# Altium footprint library CapSense.PcbLib: 4 footprints
Each footprint in its own frame and in the unit in brackets; x right, y up, seen from the top. Pads: shape width x height; smd on the part's side, far side on the other; paste and mask are expansions set on the pad; w line width, h text height; cw(c..) or ccw(c..) is an arc to the next point about the centre after c.
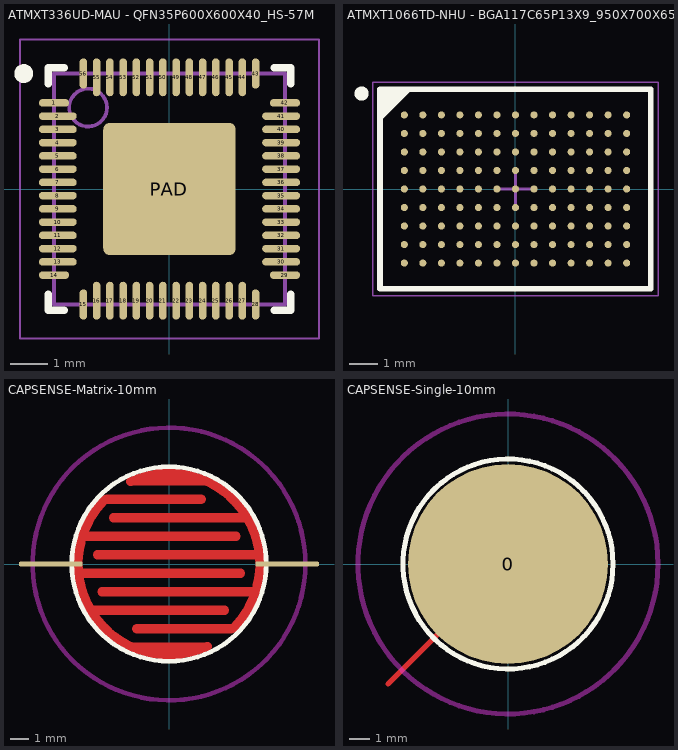
[diagram p0: the footprints below, top view; thin cyan lines are the x and y axes]

## ATMXT336UD-MAU - QFN35P600X600X40_HS-57M [mm] "QFN, 56-Leads, Body 6.00x6.00mm, Pitch 0.35mm, Thermal Pad 4.50x4.50mm, IPC Low Density"
height 0.4
pads (57):
  oval 0.8x0.2 smd paste-99 mask+0.05: 1(-3.05,2.275) 14(-3.05,-2.275) 29(3.05,-2.275) 42(3.05,2.275)
  oval 1x0.2 smd paste-99 mask+0.05: 2(-2.95,1.925) 3(-2.95,1.575) 4(-2.95,1.225) 5(-2.95,0.875) 6(-2.95,0.525) 7(-2.95,0.175) 8(-2.95,-0.175) 9(-2.95,-0.525) 10(-2.95,-0.875) 11(-2.95,-1.225) 12(-2.95,-1.575) 13(-2.95,-1.925) 30(2.95,-1.925) 31(2.95,-1.575) 32(2.95,-1.225) 33(2.95,-0.875) 34(2.95,-0.525) 35(2.95,-0.175) 36(2.95,0.175) 37(2.95,0.525) 38(2.95,0.875) 39(2.95,1.225) 40(2.95,1.575) 41(2.95,1.925)
  oval 0.2x0.8 smd paste-99 mask+0.05: 15(-2.275,-3.05) 28(2.275,-3.05) 43(2.275,3.05) 56(-2.275,3.05)
  oval 0.2x1 smd paste-99 mask+0.05: 16(-1.925,-2.95) 17(-1.575,-2.95) 18(-1.225,-2.95) 19(-0.875,-2.95) 20(-0.525,-2.95) 21(-0.175,-2.95) 22(0.175,-2.95) 23(0.525,-2.95) 24(0.875,-2.95) 25(1.225,-2.95) 26(1.575,-2.95) 27(1.925,-2.95) 44(1.925,2.95) 45(1.575,2.95) 46(1.225,2.95) 47(0.875,2.95) 48(0.525,2.95) 49(0.175,2.95) 50(-0.175,2.95) 51(-0.525,2.95) 52(-0.875,2.95) 53(-1.225,2.95) 54(-1.575,2.95) 55(-1.925,2.95)
  rrect10% 3.5x3.5 smd paste-99 mask+0.08: PAD(0,0)
Top Overlay:
  circle w0.25: c-3.85,3.05 r0.125
  lines w0.2: -3.2,-2.775 -3.2,-3.2 -2.775,-3.2 ; -3.2,2.775 -3.2,3.2 -2.775,3.2 ; 2.775,-3.2 3.2,-3.2 3.2,-2.775 ; 2.775,3.2 3.2,3.2 3.2,2.775
Top Paste:
  circle w0.5: c0,0 r0.127
  circle w0.5: c0,-1.143 r0.127
  circle w0.5: c-1.143,0 r0.127
  circle w0.5: c1.143,0 r0.127
  circle w0.5: c0,1.143 r0.127
  circle w0.5: c1.143,1.143 r0.127
  circle w0.5: c1.143,-1.143 r0.127
  circle w0.5: c-1.143,-1.143 r0.127
  circle w0.5: c-1.143,1.143 r0.127
  lines w0.2: -3.25,-2.275 -2.85,-2.275 ; -3.25,-1.925 -2.75,-1.925 ; -3.25,-1.575 -2.75,-1.575 ; -3.25,-1.225 -2.75,-1.225 ; -3.25,-0.875 -2.75,-0.875 ; -3.25,-0.525 -2.75,-0.525 ; -3.25,-0.175 -2.75,-0.175 ; -3.25,0.175 -2.75,0.175 ; -3.25,0.525 -2.75,0.525 ; -3.25,0.875 -2.75,0.875 ; -3.25,1.225 -2.75,1.225 ; -3.25,1.575 -2.75,1.575 ; -3.25,1.925 -2.75,1.925 ; -3.25,2.275 -2.85,2.275 ; -2.275,-3.25 -2.275,-2.85 ; -2.275,2.85 -2.275,3.25 ; -1.925,-3.25 -1.925,-2.75 ; -1.925,2.75 -1.925,3.25 ; -1.575,-3.25 -1.575,-2.75 ; -1.575,2.75 -1.575,3.25 ; -1.225,-3.25 -1.225,-2.75 ; -1.225,2.75 -1.225,3.25 ; -0.875,-3.25 -0.875,-2.75 ; -0.875,2.75 -0.875,3.25 ; -0.525,-3.25 -0.525,-2.75 ; -0.525,2.75 -0.525,3.25 ; -0.175,-3.25 -0.175,-2.75 ; -0.175,2.75 -0.175,3.25 ; 0.175,-3.25 0.175,-2.75 ; 0.175,2.75 0.175,3.25 ; 0.525,-3.25 0.525,-2.75 ; 0.525,2.75 0.525,3.25 ; 0.875,-3.25 0.875,-2.75 ; 0.875,2.75 0.875,3.25 ; 1.225,-3.25 1.225,-2.75 ; 1.225,2.75 1.225,3.25 ; 1.575,-3.25 1.575,-2.75 ; 1.575,2.75 1.575,3.25 ; 1.925,-3.25 1.925,-2.75 ; 1.925,2.75 1.925,3.25 ; 2.275,-3.25 2.275,-2.85 ; 2.275,2.85 2.275,3.25 ; 2.75,-1.925 3.25,-1.925 ; 2.75,-1.575 3.25,-1.575 ; 2.75,-1.225 3.25,-1.225 ; 2.75,-0.875 3.25,-0.875 ; 2.75,-0.525 3.25,-0.525 ; 2.75,-0.175 3.25,-0.175 ; 2.75,0.175 3.25,0.175 ; 2.75,0.525 3.25,0.525 ; 2.75,0.875 3.25,0.875 ; 2.75,1.225 3.25,1.225 ; 2.75,1.575 3.25,1.575 ; 2.75,1.925 3.25,1.925 ; 2.85,-2.275 3.25,-2.275 ; 2.85,2.275 3.25,2.275
Mechanical 13:
  circle w0.1: c-2.15,2.15 r0.5
  lines w0.1: -3.05,-3.05 -3.05,3.05 3.05,3.05 3.05,-3.05 -3.05,-3.05
Mechanical 15:
  lines w0.05: -3.95,-3.95 -3.95,3.95 3.95,3.95 3.95,-3.95 -3.95,-3.95
  lines w0.1: -0.5,0 0.5,0 ; 0,-0.5 0,0.5
3D body "ATMXT336UD-MAU - QFN35P600X600X40_HS-57M.step": height 0.4, standoff 0, extent -3.051,-3.051 3.051,3.051

## ATMXT1066TD-NHU - BGA117C65P13X9_950X700X65 [mm] "BGA, 117-Leads, Body 9.50x7.00mmx0.65mm, Pitch 0.65mm"
height 0.65
pads (117):
  round 0.25 smd paste-0.01 mask+0.04: A1(-3.9,2.6) A2(-3.25,2.6) A3(-2.6,2.6) A4(-1.95,2.6) A5(-1.3,2.6) A6(-0.65,2.6) A7(0,2.6) A8(0.65,2.6) A9(1.3,2.6) A10(1.95,2.6) A11(2.6,2.6) A12(3.25,2.6) A13(3.9,2.6) B1(-3.9,1.95) B2(-3.25,1.95) B3(-2.6,1.95) B4(-1.95,1.95) B5(-1.3,1.95) B6(-0.65,1.95) B7(0,1.95) B8(0.65,1.95) B9(1.3,1.95) B10(1.95,1.95) B11(2.6,1.95) B12(3.25,1.95) B13(3.9,1.95) C1(-3.9,1.3) C2(-3.25,1.3) C3(-2.6,1.3) C4(-1.95,1.3) C5(-1.3,1.3) C6(-0.65,1.3) C7(0,1.3) C8(0.65,1.3) C9(1.3,1.3) C10(1.95,1.3) C11(2.6,1.3) C12(3.25,1.3) C13(3.9,1.3) D1(-3.9,0.65) D2(-3.25,0.65) D3(-2.6,0.65) D4(-1.95,0.65) D5(-1.3,0.65) D6(-0.65,0.65) D7(0,0.65) D8(0.65,0.65) D9(1.3,0.65) D10(1.95,0.65) D11(2.6,0.65) D12(3.25,0.65) D13(3.9,0.65) E1(-3.9,0) E2(-3.25,0) E3(-2.6,0) E4(-1.95,0) E5(-1.3,0) E6(-0.65,0) E7(0,0) E8(0.65,0) E9(1.3,0) E10(1.95,0) E11(2.6,0) E12(3.25,0) E13(3.9,0) F1(-3.9,-0.65) F2(-3.25,-0.65) F3(-2.6,-0.65) F4(-1.95,-0.65) F5(-1.3,-0.65) F6(-0.65,-0.65) F7(0,-0.65) F8(0.65,-0.65) F9(1.3,-0.65) F10(1.95,-0.65) F11(2.6,-0.65) F12(3.25,-0.65) F13(3.9,-0.65) G1(-3.9,-1.3) G2(-3.25,-1.3) G3(-2.6,-1.3) G4(-1.95,-1.3) G5(-1.3,-1.3) G6(-0.65,-1.3) G7(0,-1.3) G8(0.65,-1.3) G9(1.3,-1.3) G10(1.95,-1.3) G11(2.6,-1.3) G12(3.25,-1.3) G13(3.9,-1.3) H1(-3.9,-1.95) H2(-3.25,-1.95) H3(-2.6,-1.95) H4(-1.95,-1.95) H5(-1.3,-1.95) H6(-0.65,-1.95) H7(0,-1.95) H8(0.65,-1.95) H9(1.3,-1.95) H10(1.95,-1.95) H11(2.6,-1.95) H12(3.25,-1.95) H13(3.9,-1.95) J1(-3.9,-2.6) J2(-3.25,-2.6) J3(-2.6,-2.6) J4(-1.95,-2.6) J5(-1.3,-2.6) J6(-0.65,-2.6) J7(0,-2.6) J8(0.65,-2.6) J9(1.3,-2.6) J10(1.95,-2.6) J11(2.6,-2.6) J12(3.25,-2.6) J13(3.9,-2.6)
Top Overlay:
  circle w0.25: c-5.4,3.35 r0.125
  region: -3.75,3.5 -4.75,2.5 -4.75,3.5
  lines w0.2: -4.75,2.5 -3.75,3.5 ; -4.75,-3.5 -4.75,3.5 4.75,3.5 4.75,-3.5 -4.75,-3.5
Mechanical 13:
  lines w0.1: -4.75,-3.5 -4.75,3.5 4.75,3.5 4.75,-3.5 -4.75,-3.5
Mechanical 15:
  lines w0.05: -5,-3.75 -5,3.75 5,3.75 5,-3.75 -5,-3.75
  lines w0.1: -0.5,0 0.5,0 ; 0,-0.5 0,0.5
3D body: height 0.65, standoff 0.16, extent -4.75,-3.5 4.75,3.5

## CAPSENSE-Matrix-10mm [mm]
pads (2):
  rrect50% 3.5x0.254 smd paste-5: 0(6.5,0)
  rrect50% 3.5x0.254 smd paste-1: 1(-6.5,0)
Top Layer:
  lines w0.508: -4.826,-0.508 3.937,-0.508 ; -4.699,1.524 3.683,1.524 ; -4.064,-2.54 3.048,-2.54 ; -3.937,0.508 4.826,0.508 ; -3.683,-1.524 4.699,-1.524 ; -3.536,3.536 ccw(c0,0) 2.113,-4.532 ; -3.429,3.556 1.778,3.556 ; -3.048,2.54 4.191,2.54 ; -2.113,4.532 cw(c0,0) 3.536,-3.536 ; -2.032,4.572 1.905,4.572 ; -1.905,-4.572 2.032,-4.572 ; -1.778,-3.556 3.429,-3.556
Top Overlay:
  circle w0.254: c0,0 r5.35
Keep-Out Layer:
  circle w0.254: c0,0 r7.5

## CAPSENSE-Single-10mm [mm]
pads (1):
  round 10 smd paste-5: 0(0,0)
Top Layer:
  lines w0.254: -6,-6 0,0
Top Overlay:
  circle w0.254: c0,0 r5.25
Keep-Out Layer:
  circle w0.254: c0,0 r7.5